# Altium footprint library PcbLib1.PcbLib: 1 footprints
Each footprint in its own frame and in the unit in brackets; x right, y up, seen from the top. Pads: shape width x height; smd on the part's side, far side on the other; paste and mask are expansions set on the pad; w line width, h text height; cw(c..) or ccw(c..) is an arc to the next point about the centre after c.
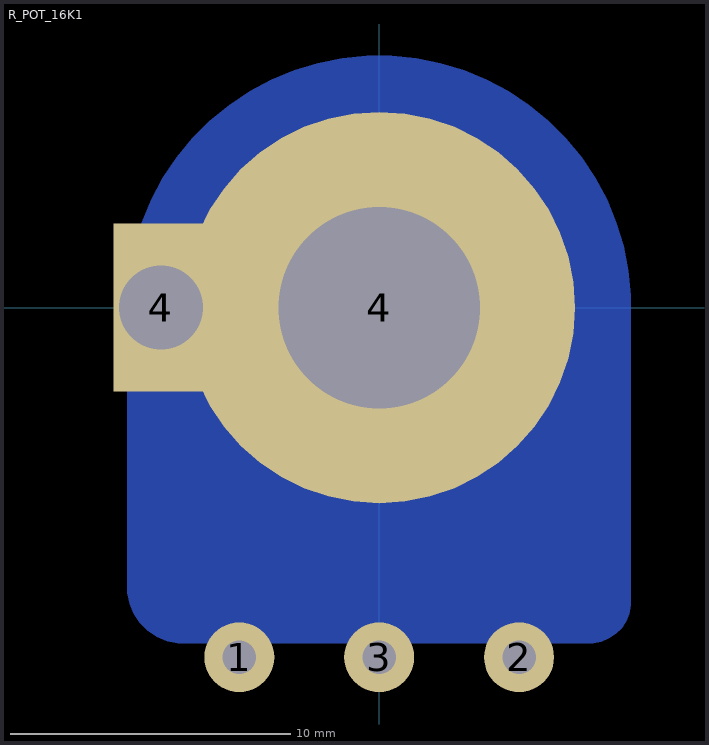
[diagram p0: the footprint, top view; thin cyan lines are the x and y axes]

## R_POT_16K1 [mm]
pads (5):
  round 2.5 hole 1.2: 1(-5,-12.5) 2(5,-12.5) 3(0,-12.5)
  rect 3.4x6 hole 3 unplated: 4(-7.8,0)
  round 14 hole 7.2 unplated: 4(0,0)
Bottom Layer:
  pour cut-out: 0,9 -0.442,9 -1.322,8.913 -2.189,8.741 -3.036,8.484 -3.853,8.146 -4.633,7.729 -5.368,7.238 -6.051,6.677 -6.677,6.051 -7.238,5.368 -7.729,4.633 -8.146,3.853 -8.484,3.036 -8.741,2.189 -8.913,1.322 -9,0.442 -9,0 -9,-10 -9,-10.197 -8.923,-10.583 -8.772,-10.947 -8.554,-11.275 -8.275,-11.554 -7.947,-11.772 -7.583,-11.923 -7.197,-12 -7,-12 7.5,-12 7.648,-12 7.938,-11.942 8.211,-11.829 8.456,-11.665 8.665,-11.456 8.829,-11.211 8.942,-10.938 9,-10.648 9,-10.5 9,0 9,0.442 8.913,1.322 8.741,2.189 8.484,3.036 8.146,3.853 7.729,4.633 7.238,5.368 6.677,6.051 6.051,6.677 5.368,7.238 4.633,7.729 3.853,8.146 3.036,8.484 2.189,8.741 1.322,8.913 0.442,9
Multi-Layer:
  pour cut-out: 0,6.5 -0.319,6.5 -0.955,6.437 -1.581,6.313 -2.192,6.127 -2.782,5.883 -3.346,5.582 -3.877,5.227 -4.37,4.822 -4.822,4.37 -5.227,3.877 -5.582,3.346 -5.883,2.782 -6.127,2.192 -6.313,1.581 -6.437,0.955 -6.5,0.319 -6.5,0 -6.5,-0.319 -6.437,-0.955 -6.313,-1.581 -6.127,-2.192 -5.883,-2.782 -5.582,-3.346 -5.227,-3.877 -4.822,-4.37 -4.37,-4.822 -3.877,-5.227 -3.346,-5.582 -2.782,-5.883 -2.192,-6.127 -1.581,-6.313 -0.955,-6.437 -0.319,-6.5 0,-6.5 0.319,-6.5 0.955,-6.437 1.581,-6.313 2.192,-6.127 2.782,-5.883 3.346,-5.582 3.877,-5.227 4.37,-4.822 4.822,-4.37 5.227,-3.877 5.582,-3.346 5.883,-2.782 6.127,-2.192 6.313,-1.581 6.437,-0.955 6.5,-0.319 6.5,0 6.5,0.319 6.437,0.955 6.313,1.581 6.127,2.192 5.883,2.782 5.582,3.346 5.227,3.877 4.822,4.37 4.37,4.822 3.877,5.227 3.346,5.582 2.782,5.883 2.192,6.127 1.581,6.313 0.955,6.437 0.319,6.5